# Altium footprint library SOT.PcbLib: 7 footprints
Each footprint in its own frame and in the unit in brackets; x right, y up, seen from the top. Pads: shape width x height; smd on the part's side, far side on the other; paste and mask are expansions set on the pad; w line width, h text height; cw(c..) or ccw(c..) is an arc to the next point about the centre after c.
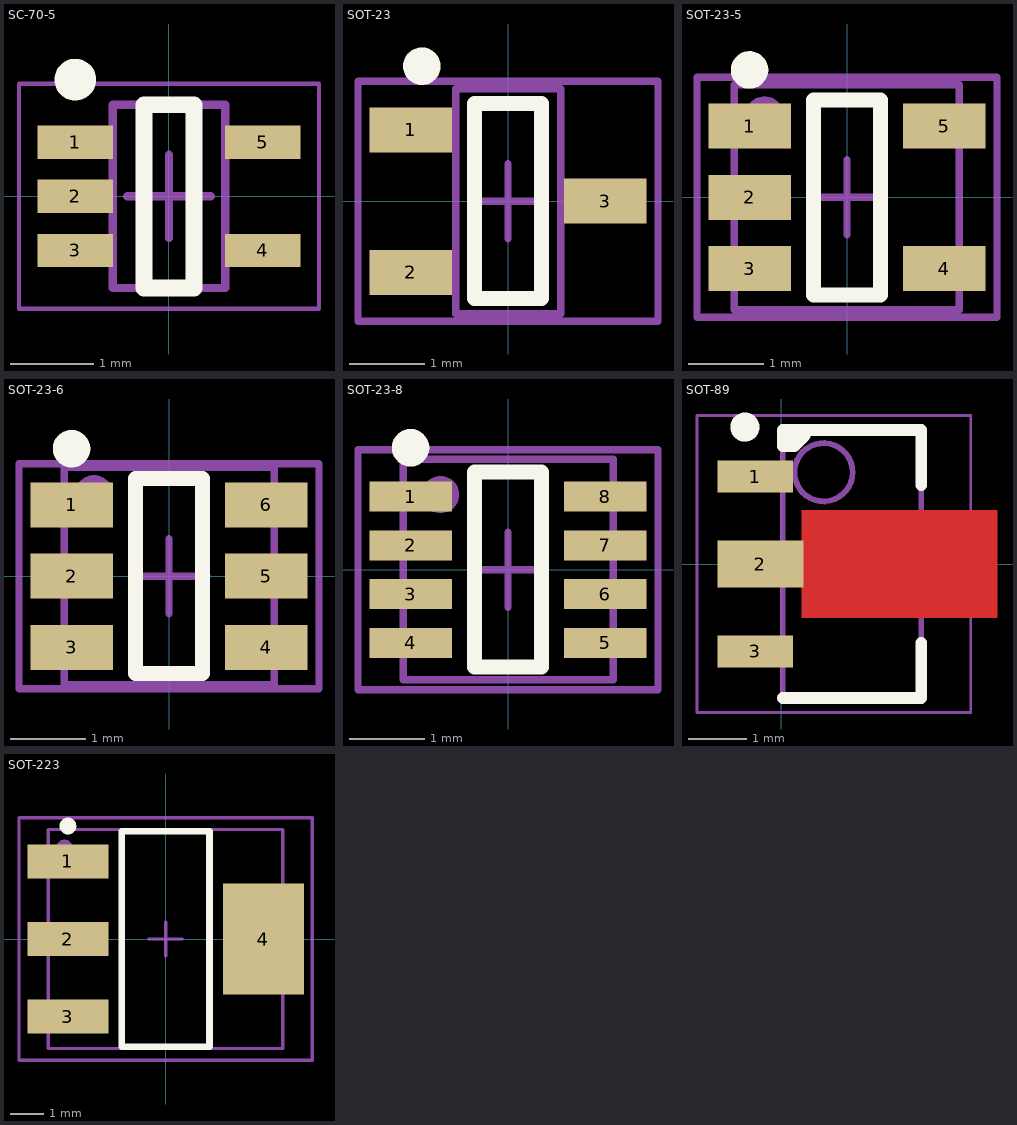
[diagram p0: the footprints below, top view; thin cyan lines are the x and y axes]

## SC-70-5 [mm] "SC-70-5 / SOT-323-5"
height 1.1
pads (5):
  rect 0.9x0.4 smd: 1(-1.125,0.65) 2(-1.125,0) 3(-1.125,-0.65) 4(1.125,-0.65) 5(1.125,0.65)
Top Overlay:
  circle w0.25: c-1.125,1.4 r0.125
  lines w0.2: -0.3,-1.1 0.3,-1.1 0.3,1.1 -0.3,1.1 -0.3,-1.1
Top Assembly (Mech3):
  lines w0.1: -0.675,-1.1 -0.675,1.1 0.675,1.1 0.675,-1.1 -0.675,-1.1
Top Courtyard:
  lines w0.05: -1.8,-1.35 -1.8,1.35 1.8,1.35 1.8,-1.35 -1.8,-1.35
  lines w0.1: -0.5,0 0.5,0 ; 0,-0.5 0,0.5
3D body "SC70-5.step": height 1.1, standoff 0, extent -1.05,-1 1.05,1

## SOT-23 [mm]
height 1.1
pads (3):
  rect 1.1x0.6 smd: 1(-1.3,0.95) 2(-1.3,-0.95) 3(1.3,0)
Top Overlay:
  circle w0.25: c-1.15,1.8 r0.125
  lines w0.2: -0.45,-1.3 0.45,-1.3 0.45,1.3 -0.45,1.3 -0.45,-1.3
Top Assembly (Mech3):
  lines w0.1: -0.7,-1.5 -0.7,1.5 0.7,1.5 0.7,-1.5 -0.7,-1.5
Top Courtyard:
  lines w0.1: -0.5,0 0.5,0 ; 0,-0.5 0,0.5 ; -2,-1.6 2,-1.6 2,1.6 -2,1.6 -2,-1.6
3D body "CircuitWorks-SOT-23.step": height 1.05, standoff -0.05, extent -1.25,-1.5 1.25,1.5

## SOT-23-5 [mm] "pitch 0.95 mm"
height 1.45
pads (6):
  rect 1.1x0.6 smd: 1(-1.3,0.95) 2(-1.3,0) 3(-1.3,-0.95) 4(1.3,-0.95) 5(1.3,0.95)
  round 0.5 on Mech3: ""(-1.1,1.1)
Top Overlay:
  circle w0.25: c-1.3,1.7 r0.125
  lines w0.2: -0.45,-1.3 0.45,-1.3 0.45,1.3 -0.45,1.3 -0.45,-1.3
Top Assembly (Mech3):
  lines w0.1: -1.5,-1.5 1.5,-1.5 1.5,1.5 -1.5,1.5 -1.5,-1.5
Top Courtyard:
  lines w0.1: -0.5,0 0.5,0 ; 0,-0.5 0,0.5 ; -2,-1.6 2,-1.6 2,1.6 -2,1.6 -2,-1.6
3D body "SOT23-5-1.step": height 1.3, standoff 0, extent -1.5,-1.5 1.5,1.5

## SOT-23-6 [mm] "pitch 0.95 mm"
height 1.1
pads (7):
  rect 1.1x0.6 smd: 1(-1.3,0.95) 2(-1.3,0) 3(-1.3,-0.95) 4(1.3,-0.95) 5(1.3,0) 6(1.3,0.95)
  round 0.5 on Mech3: ""(-1,1.1)
Top Overlay:
  circle w0.25: c-1.3,1.7 r0.125
  lines w0.2: -0.45,-1.3 0.45,-1.3 0.45,1.3 -0.45,1.3 -0.45,-1.3
Top Assembly (Mech3):
  lines w0.1: -1.4,-1.45 -1.4,1.45 1.4,1.45 1.4,-1.45 -1.4,-1.45
Top Courtyard:
  lines w0.1: -0.5,0 0.5,0 ; 0,-0.5 0,0.5 ; -2,-1.5 -2,1.5 2,1.5 2,-1.5 -2,-1.5
3D body "User Library-SOT23-6-2.STEP": height 1.45, standoff 0, extent -1.4,-1.45 1.4,1.45

## SOT-23-8 [mm] "pitch 0.95 mm"
height 1.45
pads (9):
  rect 1.1x0.4 smd: 1(-1.3,0.975) 2(-1.3,0.325) 3(-1.3,-0.325) 4(-1.3,-0.975) 5(1.3,-0.975) 6(1.3,-0.325) 7(1.3,0.325) 8(1.3,0.975)
  round 0.5 on Mech3: ""(-0.9,1)
Top Overlay:
  circle w0.25: c-1.3,1.625 r0.125
  lines w0.2: -0.45,-1.3 -0.45,1.3 0.45,1.3 0.45,-1.3 -0.45,-1.3
Top Assembly (Mech3):
  lines w0.1: -1.4,-1.47 -1.4,1.47 1.4,1.47 1.4,-1.47 -1.4,-1.47
Top Courtyard:
  lines w0.1: -0.5,0 0.5,0 ; 0,-0.5 0,0.5 ; -2,-1.6 -2,1.6 2,1.6 2,-1.6 -2,-1.6
3D body "User Library-sot238.STEP": height 1.2, standoff 0, extent -1.4,-1.495 1.4,1.445

## SOT-89 [mm] "SOT89, 3-Leads, Body 4.50x2.50mm, Pitch 1.50mm, Lead Span 3.3mm, IPC Medium Density"
height 1.6
pads (3):
  rect 1.3x0.55 smd: 1(-0.45,1.5) 3(-0.45,-1.5)
  rect 1.475x0.8 smd: 2(-0.362,0)
Top Layer:
  region: 0.35,0.925 3.7,0.925 3.7,-0.925 0.35,-0.925
Top Overlay:
  circle w0.25: c-0.627,2.35 r0.125
  region: 0.022,2.3 0.022,2.023 0.222,2.023 0.4,2.2
  lines w0.2: 0.022,-2.3 2.4,-2.3 2.4,-1.35 ; 0.4,2.2 0.222,2.023 0.022,2.023 0.022,2.3 2.4,2.3 2.4,1.35
Top Assembly (Mech3):
  circle w0.1: c0.722,1.575 r0.5
  lines w0.1: 0.022,-2.3 2.4,-2.3 2.4,2.3 0.022,2.3 0.022,-2.3
Top Courtyard:
  lines w0.05: -1.45,-2.55 -1.45,2.55 3.25,2.55 3.25,-2.55 -1.45,-2.55
  lines w0.1: 0.823,0 1.823,0 ; 1.322,-0.5 1.322,0.5
3D body "SOT-89.STEP": height 1.5, standoff 0, extent -0.875,-2.25 3.275,2.25

## SOT-223 [mm] "SOT223, 4-Leads, Body 6,50x7,00mm (avg), Pitch 2,30mm, IPC Medium Density"
height 1.8
pads (5):
  rect 2.4x1 smd: 1(-2.9,2.3) 2(-2.9,0) 3(-2.9,-2.3)
  rect 2.4x3.3 smd: 4(2.9,0)
  round 0.5 on Mech3: ""(-3,2.7)
Top Overlay:
  circle w0.25: c-2.9,3.35 r0.125
  lines w0.2: -1.3,-3.2 1.3,-3.2 1.3,3.2 -1.3,3.2 -1.3,-3.2
Top Assembly (Mech3):
  lines w0.1: -3.48,-3.25 3.48,-3.25 3.48,3.25 -3.48,3.25 -3.48,-3.25
Top Courtyard:
  lines w0.1: -0.5,0 0.5,0 ; 0,-0.5 0,0.5 ; -4.35,-3.6 4.35,-3.6 4.35,3.6 -4.35,3.6 -4.35,-3.6
3D body "SOT-223-3.step": height 1.65, standoff -0.03, extent -3.48,-3.25 3.48,3.25